# EAGLE library part AMI304 (library sensors)
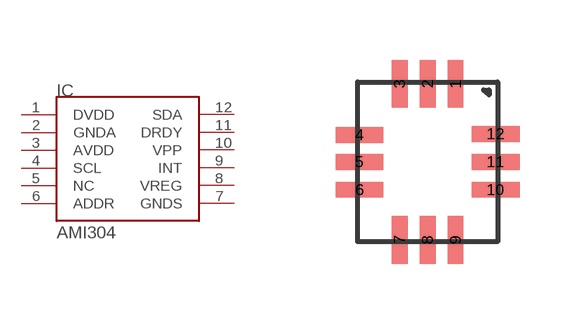
[diagram p0: symbol with the pads of LGA12; footprint LGA12]

Designator prefix IC

## AMI304  [LGA12]
1  DVDD  pwr
2  GNDA  pwr
3  AVDD  pwr
4  SCL
5  NC  nc
6  ADDR  in
7  GNDS  pwr
8  VREG  out
9  INT  out
10  VPP  sup
11  DRDY
12  SDA

## Footprint LGA12 (pad centres in mm)
smd 0.4 x 1.2: 1 0.7,1.95; 2 0,1.95; 3 -0.7,1.95; 7 -0.7,-1.95; 8 0,-1.95; 9 0.7,-1.95
smd 1.2 x 0.4: 4 -1.7,0.673; 5 -1.7,0; 6 -1.7,-0.7; 10 1.7,-0.7; 11 1.7,0; 12 1.7,0.7